# EAGLE library part OPA2130P (library burr-brown)
Low Power, Precision FET-Input Operational Amplifiers
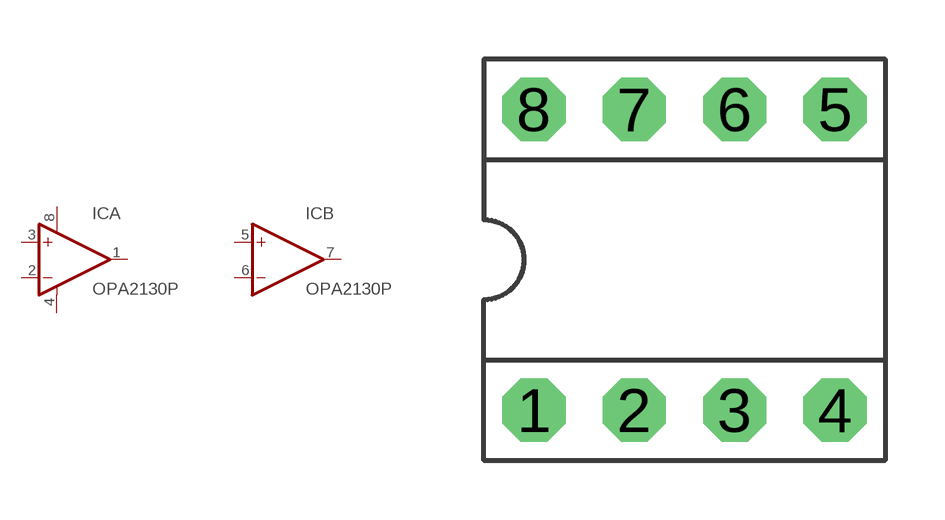
[diagram p113: symbol with the pads of DIP-08; footprint DIP-08]

Designator prefix IC; gates A=OP-AMP+- B=OP-AMP

## OPA2130P  [DIP-08]
1  A:OUT  out
2  A:-IN  in
3  A:+IN  in
4  A:V-  pwr
5  B:+IN  in
6  B:-IN  in
7  B:OUT  out
8  A:V+  pwr

## Footprint DIP-08 (pad centres in mm)
drill 0.813 pad 1.6 octagon: 1 -3.81,-3.81; 2 -1.27,-3.81; 3 1.27,-3.81; 4 3.81,-3.81; 5 3.81,3.81; 6 1.27,3.81; 7 -1.27,3.81; 8 -3.81,3.81